# Altium schematic symbol library AFBR-TX_2.SchLib: 1 symbol
Pins are listed as number, name and electrical type; pins without a type are passive.

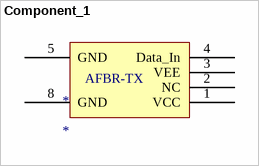
[diagram p0: symbol Component_1]

## Component_1
designator *
pins: 1 VCC, 2 NC, 3 VEE, 4 Data_In, 5 GND, 8 GND
text: AFBR-TX